# Altium schematic symbol library ABRACON_ACM-0603-121-T.SchLib: 1 symbol
Pins are listed as number, name and electrical type; pins without a type are passive.

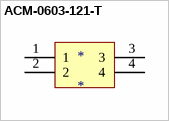
[diagram p0: symbol ACM-0603-121-T]

## ACM-0603-121-T
designator *
pins: 1, 2, 3, 4